# Altium integrated library ALIENTEK_W601_Board_V1.51.IntLib: 32 symbols
Pins are listed as number, name and electrical type; pins without a type are passive.

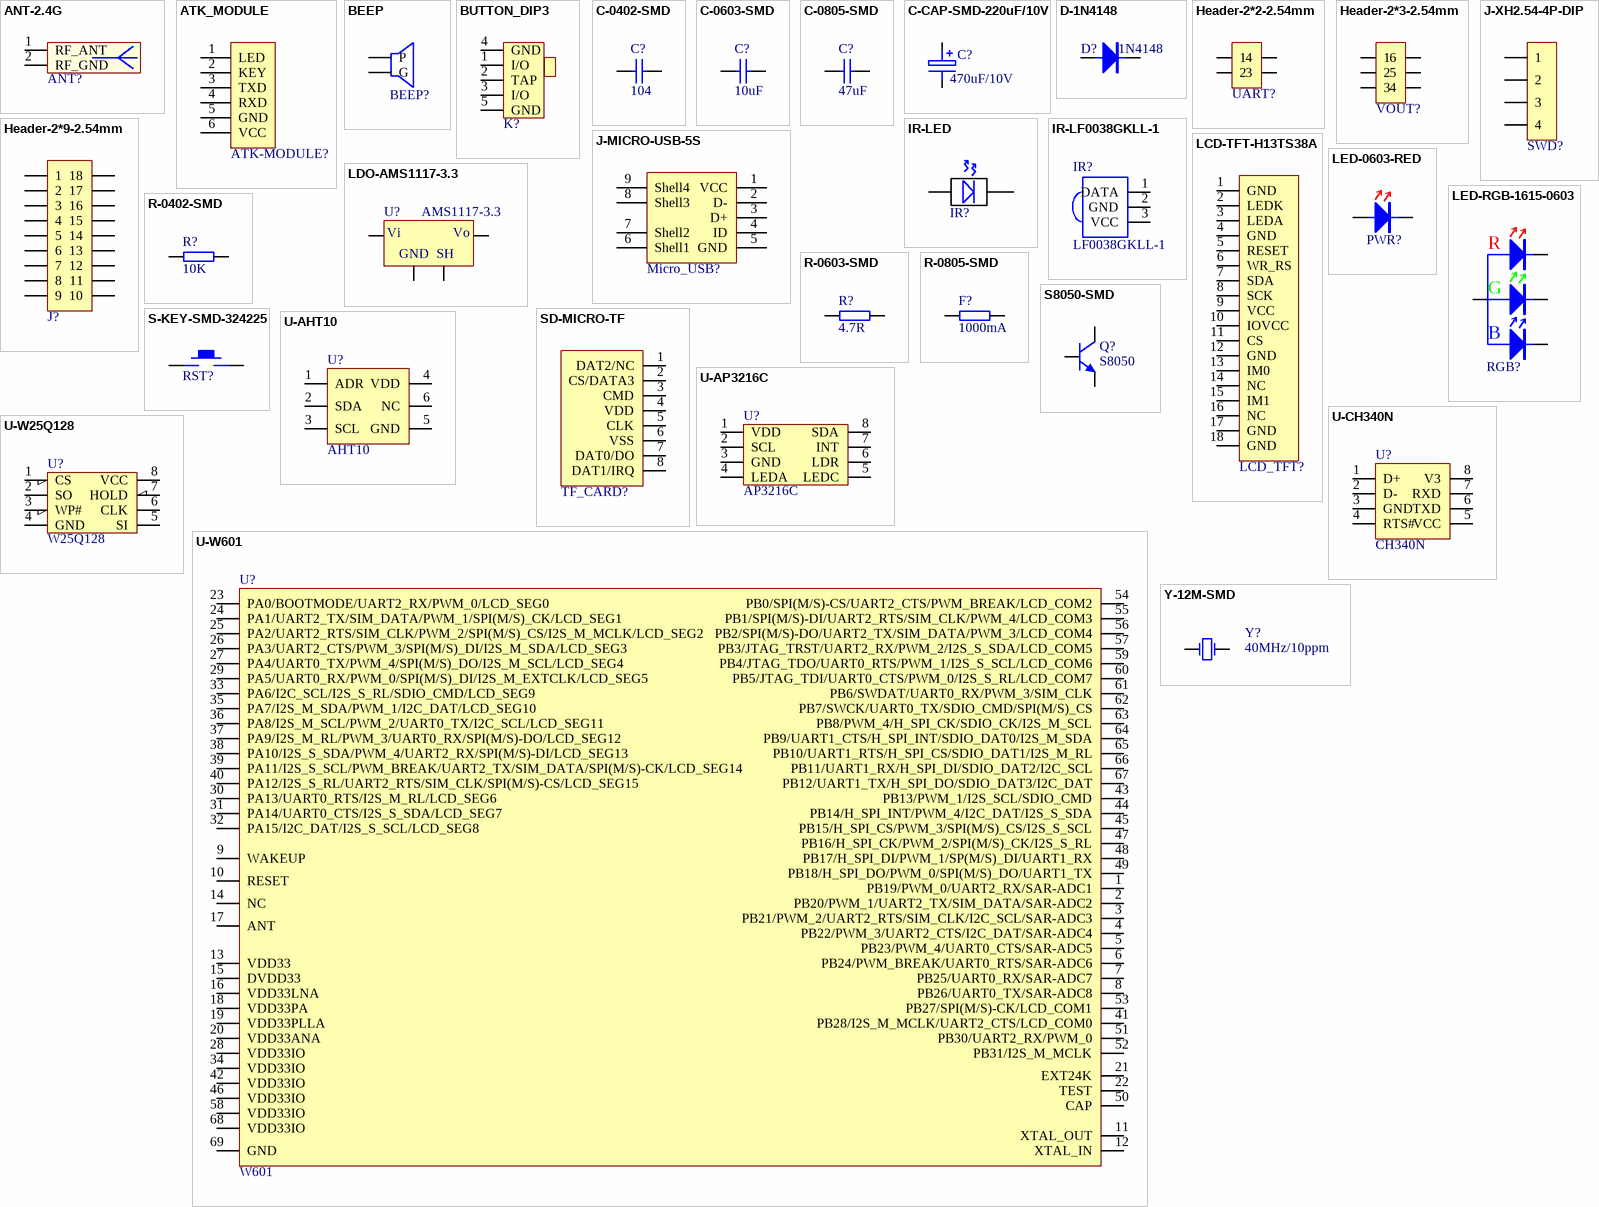
[diagram p0: symbols ANT-2.4G to Y-12M-SMD]

## ANT-2.4G
designator ANT?  (value not drawn)
ANT,2.4G,PCB天线
footprint ANT-2.4G
footprint ANT-2.4-CHANGE
pins: 1 RF_ANT, 2 RF_GND

## ATK_MODULE
designator ATK-MODULE?  (value not drawn)
单排母,1*6,2.54mm
footprint Header-1*6-2.54mm
pins: 1 LED, 2 KEY, 3 TXD, 4 RXD, 5 GND, 6 VCC

## BEEP
designator BEEP?  (value not drawn)
3.3V有源蜂鸣器
footprint BEEP
pins: 1 P, 2 G

## BUTTON_DIP3
designator K?  (value not drawn)
拨动开关SS-12F44
footprint BTN8.8*4.6
pins: 1 I/O, 2 TAP, 3 I/O, 4 GND, 5 GND

## C-0402-SMD
designator C?, comment 104
footprint CAP-SMD-0402 (贴片电容)
pins: 1, 2

## C-0603-SMD
designator C?, comment 10uF
footprint CAP-SMD-0603
pins: 1, 2

## C-0805-SMD
designator C?, comment 47uF
footprint CAP-SMD-0805
pins: 1, 2

## C-CAP-SMD-220uF/10V
designator C?, comment 470uF/10V
footprint CS 6.3mm*5.4mm
pins: 1, 2

## D-1N4148
designator D?, comment 1N4148
footprint SOD-80
footprint SOD-323(0805)
footprint SOD-523F(0603)
pins: 1, 2

## Header-2*2-2.54mm
designator UART?  (value not drawn)
双排针-2.54mm
footprint Header-2*2-2.54mm
pins: 1, 2, 3, 4

## Header-2*3-2.54mm
designator VOUT?  (value not drawn)
双排针-2.54mm
footprint Header-2*3-2.54mm
pins: 1, 2, 3, 4, 5, 6

## Header-2*9-2.54mm
designator J?  (value not drawn)
双排针-2.54mm
footprint Header-2*9-2.54mm
pins: 1, 2, 3, 4, 5, 6, 7, 8, 9, 10, 11, 12, 13, 14, 15, 16, 17, 18

## IR-LED
designator IR?  (value not drawn)
1206红外发射管（侧）
footprint IR-LED
pins: 1, 2

## IR-LF0038GKLL-1
designator IR?, comment LF0038GKLL-1
红外接收管SMD
footprint IR-LF0038GKLL-1 (红外接收管)
pins: 1 DATA, 2 GND, 3 VCC

## J-MICRO-USB-5S
designator Micro_USB?  (value not drawn)
MICRO-USB,SMD
footprint USB-AB-5S
pins: 1 VCC, 2 D-, 3 D+, 4 ID, 5 GND, 6 Shell1, 7 Shell2, 8 Shell3, 9 Shell4

## J-XH2.54-4P-DIP
designator SWD?  (value not drawn)
XH2.54端子-DIP
footprint XH2.54-4P-DIP
pins: 1, 2, 3, 4

## LCD-TFT-H13TS38A
designator LCD_TFT?  (value not drawn)
LCD,TFT,1.3'240*240,禹龙
footprint TFT-H13TS43B (TFT,1.3',240*240)
pins: 1 GND, 2 LEDK, 3 LEDA, 4 GND, 5 RESET, 6 WR_RS, 7 SDA, 8 SCK, 9 VCC, 10 IOVCC, 11 CS, 12 GND, 13 IM0, 14 NC, 15 IM1, 16 NC, 17 GND, 18 GND

## LDO-AMS1117-3.3
designator U?, comment AMS1117-3.3
LDO,1A
footprint SOT-223
pins: 1, 2, 3, 4
text: Vi; Vo; GND; SH

## LED-0603-RED
designator PWR?  (value not drawn)
发光二极管-红色
footprint LED-SMD-0603-RED
pins: 1, 2

## LED-RGB-1615-0603
designator RGB?  (value not drawn)
RGB,共阳,1615,0603
footprint LED-RGB-1615-0603
pins: 1, 2, 3, 4
text: R; G; B

## R-0402-SMD
designator R?, comment 10K
贴片电阻
footprint RES-SMD-0402 (贴片电阻)
pins: 1, 2

## R-0603-SMD
designator R?, comment 4.7R
贴片电阻
footprint RES-SMD-0603 (贴片电阻)
pins: 1, 2

## R-0805-SMD
designator F?, comment 1000mA
贴片电阻
footprint RES-SMD-0805 (贴片电阻)
pins: 1, 2

## S8050-SMD
designator Q?, comment S8050
footprint SOT-23-3
pins: 1, 2, 3

## S-KEY-SMD-324225
designator RST?  (value not drawn)
KEY,SMD,324225
footprint KEY-SOP324225
pins: 1, 2

## SD-MICRO-TF
designator TF_CARD?  (value not drawn)
SD,MICRO,TF
footprint SD-MICRO-TF (TF卡座)
pins: 1 DAT2/NC, 2 CS/DATA3, 3 CMD, 4 VDD, 5 CLK, 6 VSS, 7 DAT0/DO, 8 DAT1/IRQ

## U-AHT10
designator U?, comment AHT10
Sensor,温湿度传感器
footprint AHT10 (温湿度传感器)
pins: 1 ADR, 2 SDA, 3 SCL, 4 VDD, 5 GND, 6 NC

## U-AP3216C
designator U?, comment AP3216C
Sensor.光照/距离
footprint QFN-8-2.4*4.1
pins: 1 VDD, 2 SCL, 3 GND, 4 LEDA, 5 LEDC, 6 LDR, 7 INT, 8 SDA

## U-CH340N
designator U?, comment CH340N
USB转TTL,内置晶振
footprint SOP-8
pins: 1 D+, 2 D-, 3 GND, 4 RTS#, 5 VCC, 6 TXD, 7 RXD, 8 V3

## U-W25Q128
designator U?, comment W25Q128
SPI FLASH,16M
footprint SOP-8-V
pins: 1 CS, 2 SO, 3 WP#, 4 GND, 5 SI, 6 CLK, 7 HOLD, 8 VCC

## U-W601
designator U?, comment W601
WIFI.CM3,80MHz,288K RAM,1M FLASH
footprint QFN-68
pins: 1 PB19/PWM_0/UART2_RX/SAR-ADC1, 2 PB20/PWM_1/UART2_TX/SIM_DATA/SAR-ADC2, 3 PB21/PWM_2/UART2_RTS/SIM_CLK/I2C_SCL/SAR-ADC3, 4 PB22/PWM_3/UART2_CTS/I2C_DAT/SAR-ADC4, 5 PB23/PWM_4/UART0_CTS/SAR-ADC5, 6 PB24/PWM_BREAK/UART0_RTS/SAR-ADC6, 7 PB25/UART0_RX/SAR-ADC7, 8 PB26/UART0_TX/SAR-ADC8, 9 WAKEUP, 10 RESET, 11 XTAL_OUT, 12 XTAL_IN, 13 VDD33, 14 NC, 15 DVDD33, 16 VDD33LNA, 17 ANT, 18 VDD33PA, 19 VDD33PLLA, 20 VDD33ANA, 21 EXT24K, 22 TEST, 23 PA0/BOOTMODE/UART2_RX/PWM_0/LCD_SEG0, 24 PA1/UART2_TX/SIM_DATA/PWM_1/SPI(M/S)_CK/LCD_SEG1, 25 PA2/UART2_RTS/SIM_CLK/PWM_2/SPI(M/S)_CS/I2S_M_MCLK/LCD_SEG2, 26 PA3/UART2_CTS/PWM_3/SPI(M/S)_DI/I2S_M_SDA/LCD_SEG3, 27 PA4/UART0_TX/PWM_4/SPI(M/S)_DO/I2S_M_SCL/LCD_SEG4, 28 VDD33IO, 29 PA5/UART0_RX/PWM_0/SPI(M/S)_DI/I2S_M_EXTCLK/LCD_SEG5, 30 PA13/UART0_RTS/I2S_M_RL/LCD_SEG6, 31 PA14/UART0_CTS/I2S_S_SDA/LCD_SEG7, 32 PA15/I2C_DAT/I2S_S_SCL/LCD_SEG8, 33 PA6/I2C_SCL/I2S_S_RL/SDIO_CMD/LCD_SEG9, 34 VDD33IO, 35 PA7/I2S_M_SDA/PWM_1/I2C_DAT/LCD_SEG10, 36 PA8/I2S_M_SCL/PWM_2/UART0_TX/I2C_SCL/LCD_SEG11, 37 PA9/I2S_M_RL/PWM_3/UART0_RX/SPI(M/S)-DO/LCD_SEG12, 38 PA10/I2S_S_SDA/PWM_4/UART2_RX/SPI(M/S)-DI/LCD_SEG13, 39 PA11/I2S_S_SCL/PWM_BREAK/UART2_TX/SIM_DATA/SPI(M/S)-CK/LCD_SEG14, 40 PA12/I2S_S_RL/UART2_RTS/SIM_CLK/SPI(M/S)-CS/LCD_SEG15, 41 PB28/I2S_M_MCLK/UART2_CTS/LCD_COM0, 42 VDD33IO, 43 PB13/PWM_1/I2S_SCL/SDIO_CMD, 44 PB14/H_SPI_INT/PWM_4/I2C_DAT/I2S_S_SDA, 45 PB15/H_SPI_CS/PWM_3/SPI(M/S)_CS/I2S_S_SCL, 46 VDD33IO, 47 PB16/H_SPI_CK/PWM_2/SPI(M/S)_CK/I2S_S_RL, 48 PB17/H_SPI_DI/PWM_1/SP(M/S)_DI/UART1_RX, 49 PB18/H_SPI_DO/PWM_0/SPI(M/S)_DO/UART1_TX, 50 CAP, 51 PB30/UART2_RX/PWM_0, 52 PB31/I2S_M_MCLK, 53 PB27/SPI(M/S)-CK/LCD_COM1, 54 PB0/SPI(M/S)-CS/UART2_CTS/PWM_BREAK/LCD_COM2, 55 PB1/SPI(M/S)-DI/UART2_RTS/SIM_CLK/PWM_4/LCD_COM3, 56 PB2/SPI(M/S)-DO/UART2_TX/SIM_DATA/PWM_3/LCD_COM4, 57 PB3/JTAG_TRST/UART2_RX/PWM_2/I2S_S_SDA/LCD_COM5, 58 VDD33IO, 59 PB4/JTAG_TDO/UART0_RTS/PWM_1/I2S_S_SCL/LCD_COM6, 60 PB5/JTAG_TDI/UART0_CTS/PWM_0/I2S_S_RL/LCD_COM7, 61 PB6/SWDAT/UART0_RX/PWM_3/SIM_CLK, 62 PB7/SWCK/UART0_TX/SDIO_CMD/SPI(M/S)_CS, 63 PB8/PWM_4/H_SPI_CK/SDIO_CK/I2S_M_SCL, 64 PB9/UART1_CTS/H_SPI_INT/SDIO_DAT0/I2S_M_SDA, 65 PB10/UART1_RTS/H_SPI_CS/SDIO_DAT1/I2S_M_RL, 66 PB11/UART1_RX/H_SPI_DI/SDIO_DAT2/I2C_SCL, 67 PB12/UART1_TX/H_SPI_DO/SDIO_DAT3/I2C_DAT, 68 VDD33IO, 69 GND

## Y-12M-SMD
designator Y?, comment 40MHz/10ppm
晶振 - 12M贴片
footprint Y-3225
pins: 1, 3